# Altium schematic symbol library IC_Tronics_GYPRO3300_eec.SchLib: 1 symbol
Pins are listed as number, name and electrical type; pins without a type are passive.

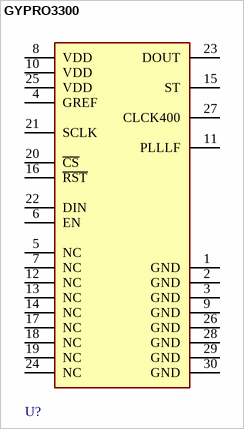
[diagram p0: symbol GYPRO3300]

## GYPRO3300
designator U?  (value not drawn)
pins: 1 GND, 2 GND, 3 GND, 4 GREF, 5 NC, 6 EN, 7 NC, 8 VDD, 9 GND, 10 VDD, 11 PLLLF, 12 NC, 13 NC, 14 NC, 15 ST, 16 ~{RST}, 17 NC, 18 NC, 19 NC, 20 ~{CS}, 21 SCLK, 22 DIN, 23 DOUT, 24 NC, 25 VDD, 26 GND, 27 CLCK400, 28 GND, 29 GND, 30 GND